# EAGLE library part PROTOSPACE (library parts)
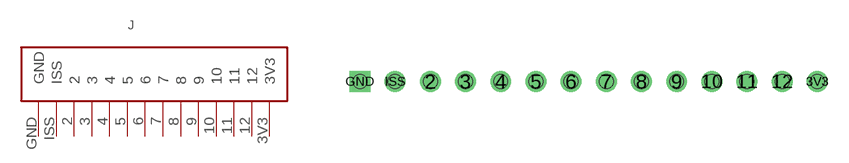
[diagram p5: symbol with the pads of PROTOSPACE; footprint PROTOSPACE]

Designator prefix J

## PROTOSPACE  [PROTOSPACE]
2  2
3  3
3V3  3V3
4  4
5  5
6  6
7  7
8  8
9  9
10  10
11  11
12  12
GND  GND
ISS  ISS

## Footprint PROTOSPACE (pad centres in mm)
drill 1 round: 2 -10.16,2.54; 3 -7.62,2.54; 3V3 17.78,2.54; 4 -5.08,2.54; 5 -2.54,2.54; 6 0,2.54; 7 2.54,2.54; 8 5.08,2.54; 9 7.62,2.54; 10 10.16,2.54; 11 12.7,2.54; 12 15.24,2.54; ISS -12.7,2.54
drill 1 square: GND -15.24,2.54
hole 1 at 0,2.54
hole 1 at -2.54,2.54
hole 1 at -5.08,2.54
hole 1 at -7.62,2.54
hole 1 at -10.16,2.54
hole 1 at -12.7,2.54
hole 1 at 2.54,2.54
hole 1 at 5.08,2.54
hole 1 at 7.62,2.54
hole 1 at 10.16,2.54
hole 1 at 12.7,2.54
hole 1 at 15.24,2.54
hole 1 at -15.24,2.54
hole 1 at 17.78,2.54